# EAGLE library part KAF8300 (library ICs)
Image Sensor Monochrome CCD 3326x2504 Pixels 32-Pin CDIP
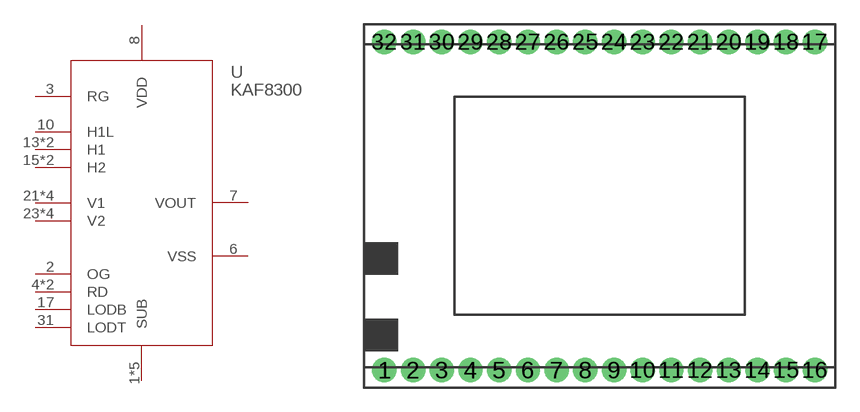
[diagram p179: symbol with the pads of KAF8300; footprint KAF8300]

Designator prefix U

## KAF8300-AAB-CB-AE (ARROW: KAF-8300-AAB-CB-AE; HEIGHT: 3.5; PRICE_PER: 108; VALUE: KAF8300)  [KAF8300]
1  SUB
2  OG
3  RG
4  RD
5  RD
6  VSS
7  VOUT
8  VDD
9  SUB
10  H1L
12  SUB
13  H1
14  H1
15  H2
16  H2
17  LODB
20  SUB
21  V1
22  V1
23  V2
24  V2
26  SUB
27  V2
28  V2
29  V1
30  V1
31  LODT

## Footprint KAF8300 (pad centres in mm)
drill 1: 1 -13.335,-10.16; 2 -11.557,-10.16; 3 -9.779,-10.16; 4 -8.001,-10.16; 5 -6.223,-10.16; 6 -4.445,-10.16; 7 -2.667,-10.16; 8 -0.889,-10.16; 9 0.889,-10.16; 10 2.667,-10.16; 11 4.445,-10.16; 12 6.223,-10.16; 13 8.001,-10.16; 14 9.779,-10.16; 15 11.557,-10.16; 16 13.335,-10.16; 17 13.335,10.16; 18 11.557,10.16; 19 9.779,10.16; 20 8.001,10.16; 21 6.223,10.16; 22 4.445,10.16; 23 2.667,10.16; 24 0.889,10.16; 25 -0.889,10.16; 26 -2.667,10.16; 27 -4.445,10.16; 28 -6.223,10.16; 29 -8.001,10.16; 30 -9.779,10.16; 31 -11.557,10.16; 32 -13.335,10.16